# Altium schematic symbol library 4wheel sensor board.SchLib: 29 symbols
Pins are listed as number, name and electrical type; pins without a type are passive.

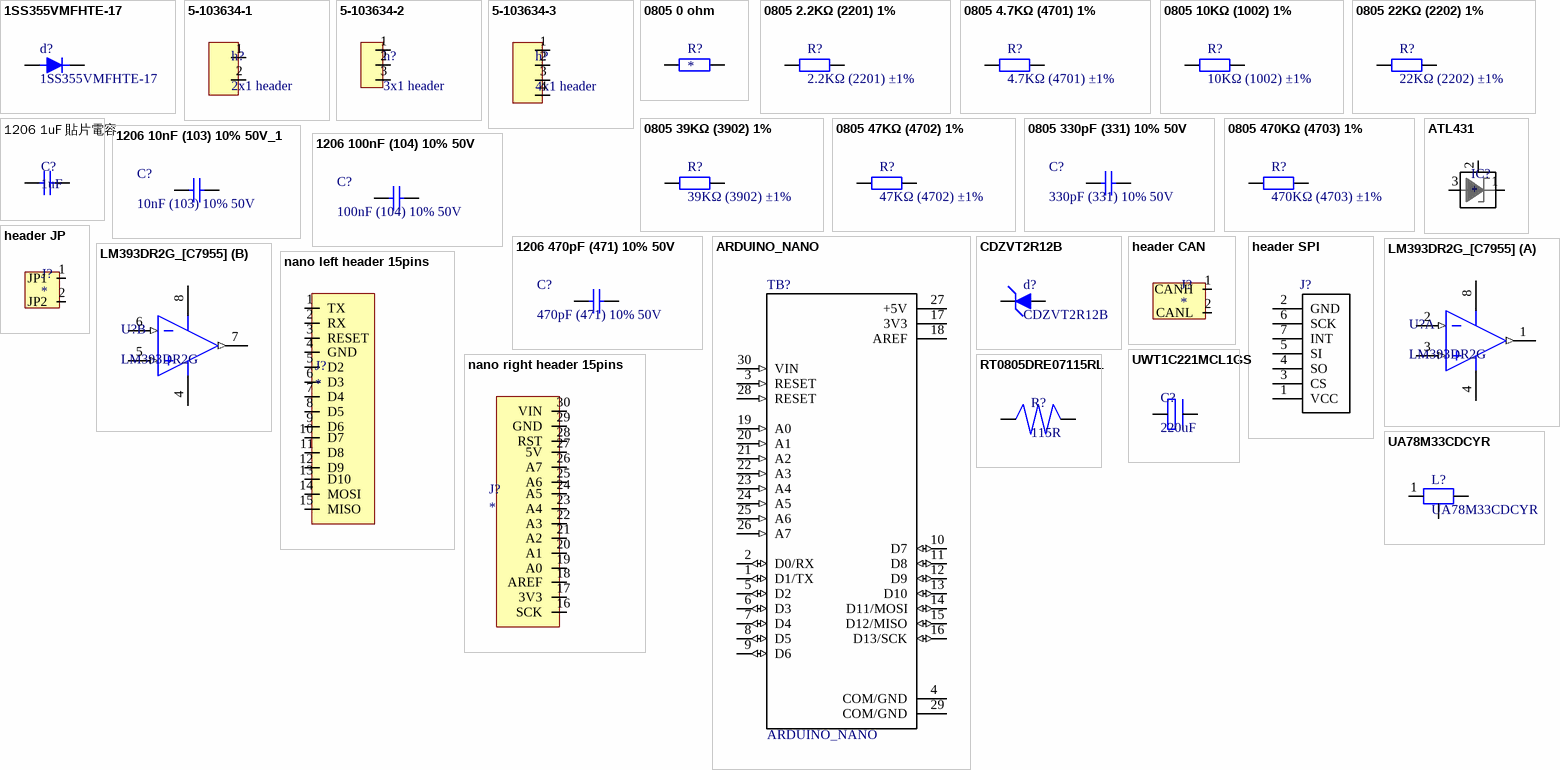
[diagram p0: symbols 1SS355VMFHTE-17 to UWT1C221MCL1GS]

## 1SS355VMFHTE-17
designator d?
ROHM         1SS355VMFHTE-17             Small Signal Diode, Single, 90 V, 100 mA, 1.2 V, 4 ns, 500 mA; Max Repetitive Reverse Voltage (Vrrm): 90V; Forward Current: 100mA; Forward Voltage: 1.2V; Reverse Recovery Time: 4ns; Max Forward Surge Current (Ifsm): 500mA; Supplier 1: Mouser; Supplier Part Number 1: 755-1SS355VMFHTE-17; Manufacturer: Rohm; Manufacturer Part Number: 1SS355VMFHTE-17; RoHS: No; Stock 1: 46949; Pricing 1: 1 = 0.31000, 10 = 0.21200, 100 = 0.08900, 1000 = 0.06000, 3000 = 0.04700, 9000 = 0.04700 (USD); Case/Package: SOD; Number of Pins: 2; Max Operating Temperature: 150°C; Packaging: Cut Tape; Element Configuration: Single; REACH SVHC: Unknown; ComponentLink1URL: http://www.farnell.com/datasheets/2296360.pdf?src-supplier=Farnell; ComponentLink1Description: http://www.farnell.com/datasheets/2296360.pdf?src-supplier=Farnell; ComponentLink2URL: http://www.farnell.com/datasheets/2021474.pdf?src-supplier=Farnell; ComponentLink2Description: http://www.farnell.com/datasheets/2021474.pdf?src-supplier=Farnell; ComponentLink3URL: https://www.rohm.com/datasheet/1SS355VMFH/1ss355vmfhte-17-e?src-supplier=Digi-Key; ComponentLink3Description: https://www.rohm.com/datasheet/1SS355VMFH/1ss355vmfhte-17-e?src-supplier=Digi-Key; ComponentLink4URL: http://www.farnell.com/datasheets/2296360.pdf?src-supplier=Newark; ComponentLink4Description: http://www.farnell.com/datasheets/2296360.pdf?src-supplier=Newark; ComponentLink5URL: http://www.farnell.com/datasheets/2021474.pdf?src-supplier=Element14; ComponentLink5Description: http://www.farnell.com/datasheets/2021474.pdf?src-supplier=Element14; catagory: diode
footprint 1SS355VMFHTE-17
pins: 1 71, 2 70

## 5-103634-1
designator h?, comment 2x1 header
Conn Shrouded Header (4 Sides) HDR 2 POS 2.54mm Solder RA Thru-Hole Box/Tube; Manufacturer: TE Connectivity; Manufacturer Part Number: 5-103634-1; Current Rating: 3A; Contact Resistance: 15mR; Number of Positions: 2; Insulation Resistance: 5GR; Voltage Rating: 600V; Connector Type: Plug; Gender: Male; Backwall/Post Interruptions: No (Without); Contact Retention: Yes (With); Plating Thickness: 2.54um; PCB Mount Retention: Without; PCB Mounting Orientation: Right Angle; Row Spacing: 0.1inch; Tail Length: 3.3mm; Approvals: CSA; Supplier 1: Mouser; Supplier Part Number 1: 571-5-103634-1; Stock 1: 4974; Pricing 1: 1 = 0.67000, 10 = 0.56600, 100 = 0.50100, 500 = 0.43900, 1000 = 0.40900, 2500 = 0.36700, 10000 = 0.34500, 25000 = 0.32800 (USD); Mount: Through Hole; Contact Plating: Tin; Contact Material: Brass; Color: Black; Housing Color: Black; Housing Material: Thermoplastic; Contact Shape: Square; Min Operating Temperature: -65°C; Max Operating Temperature: 105°C; Number of Rows: 1; Contact Gender: Male; Package Quantity: 70; Packaging: Rail/Tube; Termination: Crimp; Number of Contacts: 2; Orientation: Right Angle; Mating Alignment: Yes (With); Mating Retention: Yes (With); PCB Mount Alignment: No (Without); Strain Relief: No (Without); Contact Current Rating: 3A; Length: 7.62mm; Height: 0.274inch; Pitch: 2.54mm; Contact Mating Length: 0.23inch; Depth: 13.59mm; Radiation Hardening: No; REACH SVHC: No SVHC; Flammability Rating: UL94 V-0; ELV: Compliant; Lead Free: Lead Free; ComponentLink1URL: https://datasheet.ciiva.com/16318/5-103634-1-16318798.pdf?src-supplier=Future+Electronics; ComponentLink1Description: https://datasheet.ciiva.com/16318/5-103634-1-16318798.pdf?src-supplier=Future+Electronics; ComponentLink2URL: https://datasheet.ciiva.com/7703/1651634-7703466.pdf?src-supplier=Element14; ComponentLink2Description: https://datasheet.ciiva.com/7703/1651634-7703466.pdf?src-supplier=Element14; ComponentLink3URL: https://datasheet.ciiva.com/3118/eng-cs-1307819-section-5-cont-0808-3118262.pdf?src-supplier=Avnet; ComponentLink3Description: https://datasheet.ciiva.com/3118/eng-cs-1307819-section-5-cont-0808-3118262.pdf?src-supplier=Avnet; ComponentLink4URL: https://datasheet.ciiva.com/709/eng-cd-103634-u2-709833.pdf?src-supplier=Digi-Key; ComponentLink4Description: https://datasheet.ciiva.com/709/eng-cd-103634-u2-709833.pdf?src-supplier=Digi-Key; ComponentLink5URL: http://datasheet.octopart.com/5-103634-1-TE-Connectivity-datasheet-11077636.pdf?src-supplier=Newark; ComponentLink5Description: http://datasheet.octopart.com/5-103634-1-TE-Connectivity-datasheet-11077636.pdf?src-supplier=Newark; ComponentLink6URL: http://datasheet.octopart.com/5-103634-1-TE-Connectivity-datasheet-136861139.pdf?src-supplier=ShanghaiCT; ComponentLink6Description: http://datasheet.octopart.com/5-103634-1-TE-Connectivity-datasheet-136861139.pdf?src-supplier=ShanghaiCT; ComponentLink7URL: http://datasheet.octopart.com/5-103634-1-TE-Connectivity-datasheet-8324834.pdf?src-supplier=Master+Electronics; ComponentLink7Description: http://datasheet.octopart.com/5-103634-1-TE-Connectivity-datasheet-8324834.pdf?src-supplier=Master+Electronics; ComponentLink8URL: http://sigma.octopart.com/15108092/technical_drawing/TE-Connectivity-5-103634-1.pdf?src-supplier=TE+Connectivity; ComponentLink8Description: http://sigma.octopart.com/15108092/technical_drawing/TE-Connectivity-5-103634-1.pdf?src-supplier=TE+Connectivity; ComponentLink9URL: http://sigma.octopart.com/101751519/technical_drawing/TE-Connectivity-5-103634-1.pdf?src-supplier=Future+Electronics; ComponentLink9Description: http://sigma.octopart.com/101751519/technical_drawing/TE-Connectivity-5-103634-1.pdf?src-supplier=Future+Electronics; ComponentLink10URL: http://sigma.octopart.com/77852267/technical_drawing/TE-Connectivity-5-103634-1.pdf?src-supplier=TE+Connectivity; ComponentLink10Description: http://sigma.octopart.com/77852267/technical_drawing/TE-Connectivity-5-103634-1.pdf?src-supplier=TE+Connectivity; ComponentLink11URL: http://datasheet.octopart.com/5-103634-1-Agastat-datasheet-13560061.pdf?src-supplier=TE+Connectivity; ComponentLink11Description: http://datasheet.octopart.com/5-103634-1-Agastat-datasheet-13560061.pdf?src-supplier=TE+Connectivity; ComponentLink12URL: http://datasheet.octopart.com/5-103634-1-Tyco-Electronics-datasheet-508243.pdf?src-supplier=Verical; ComponentLink12Description: http://datasheet.octopart.com/5-103634-1-Tyco-Electronics-datasheet-508243.pdf?src-supplier=Verical; ComponentLink13URL: http://datasheet.octopart.com/5-103634-1-Tyco-Electronics-datasheet-8817613.pdf?src-supplier=Verical; ComponentLink13Description: http://datasheet.octopart.com/5-103634-1-Tyco-Electronics-datasheet-8817613.pdf?src-supplier=Verical; ComponentLink14URL: http://datasheet.octopart.com/5-103634-1-TE-Connectivity-datasheet-21140140.pdf?src-supplier=Farnell; ComponentLink14Description: http://datasheet.octopart.com/5-103634-1-TE-Connectivity-datasheet-21140140.pdf?src-supplier=Farnell; catagory: header
footprint *TE_5-103634-1
pins: 1, 2

## 5-103634-2
designator h?, comment 3x1 header
Conn Shrouded Header (4 Sides) HDR 3 POS 2.54mm Solder RA Thru-Hole Automotive Tube; Manufacturer: TE Connectivity; Manufacturer Part Number: 5-103634-2; Contact Resistance: 15mR; Current Rating: 3A; Connector Type: Plug; Number of Positions: 3; Insulation Resistance: 5GR; Voltage Rating: 600V; Gender: Male; Backwall/Post Interruptions: No (Without); Contact Retention: Yes (With); Plating Thickness: 2.54um; PCB Mount Retention: Without; PCB Mounting Orientation: Right Angle; Row Spacing: 0.1inch; Tail Length: 3.3mm; Approvals: CSA; Supplier 1: Mouser; Supplier Part Number 1: 571-5-103634-2; Stock 1: 2067; Pricing 1: 1 = 0.99000, 10 = 0.91200, 100 = 0.80200, 500 = 0.69700, 1000 = 0.62700, 2500 = 0.55500, 10000 = 0.52100, 25000 = 0.49600, 50000 = 0.48300 (USD); Mount: Through Hole; Contact Plating: Tin; Contact Material: Brass; Color: Black; Housing Color: Black; Housing Material: Thermoplastic; Contact Shape: Square; Min Operating Temperature: -65°C; Max Operating Temperature: 105°C; Number of Rows: 1; Packaging: Rail/Tube; Contact Gender: Male; Package Quantity: 52; Termination: Crimp; Number of Contacts: 3; Orientation: Right Angle; Mating Alignment: Yes (With); Mating Retention: Yes (With); PCB Mount Alignment: No (Without); Strain Relief: No (Without); Contact Current Rating: 3A; Length: 0.4inch; Height: 13.59mm; Pitch: 2.54mm; Contact Mating Length: 0.23inch; Depth: 13.59mm; Radiation Hardening: No; REACH SVHC: No SVHC; ELV: Compliant; Lead Free: Lead Free; Flammability Rating: UL94 V-0; ComponentLink1URL: https://datasheet.ciiva.com/16684/eng-ds-4-1773458-0-ampmodu-mte-interconnect-sys-0810-16684821.pdf?src-supplier=Avnet+Europe; ComponentLink1Description: https://datasheet.ciiva.com/16684/eng-ds-4-1773458-0-ampmodu-mte-interconnect-sys-0810-16684821.pdf?src-supplier=Avnet+Europe; ComponentLink2URL: https://datasheet.ciiva.com/7703/1651634-7703467.pdf?src-supplier=Element14; ComponentLink2Description: https://datasheet.ciiva.com/7703/1651634-7703467.pdf?src-supplier=Element14; ComponentLink3URL: https://datasheet.ciiva.com/709/eng-cd-103634-u2-709935.pdf?src-supplier=Digi-Key; ComponentLink3Description: https://datasheet.ciiva.com/709/eng-cd-103634-u2-709935.pdf?src-supplier=Digi-Key; ComponentLink4URL: https://datasheet.ciiva.com/30064/eng-cs-1307819-section-5-cont-0808-30064086.pdf?src-supplier=Onlinecomponents.com; ComponentLink4Description: https://datasheet.ciiva.com/30064/eng-cs-1307819-section-5-cont-0808-30064086.pdf?src-supplier=Onlinecomponents.com; ComponentLink5URL: https://datasheet.ciiva.com/3118/eng-ds-4-1773458-0-ampmodu-mte-interconnect-sys-0411-3118263.pdf?src-supplier=Avnet; ComponentLink5Description: https://datasheet.ciiva.com/3118/eng-ds-4-1773458-0-ampmodu-mte-interconnect-sys-0411-3118263.pdf?src-supplier=Avnet; ComponentLink6URL: http://datasheet.octopart.com/5-103634-2-TE-Connectivity-datasheet-11077636.pdf?src-supplier=Newark; ComponentLink6Description: http://datasheet.octopart.com/5-103634-2-TE-Connectivity-datasheet-11077636.pdf?src-supplier=Newark; ComponentLink7URL: http://datasheet.octopart.com/5-103634-2-TE-Connectivity-datasheet-136861139.pdf?src-supplier=ShanghaiCT; ComponentLink7Description: http://datasheet.octopart.com/5-103634-2-TE-Connectivity-datasheet-136861139.pdf?src-supplier=ShanghaiCT; ComponentLink8URL: http://sigma.octopart.com/15108092/technical_drawing/TE-Connectivity-5-103634-2.pdf?src-supplier=TE+Connectivity; ComponentLink8Description: http://sigma.octopart.com/15108092/technical_drawing/TE-Connectivity-5-103634-2.pdf?src-supplier=TE+Connectivity; ComponentLink9URL: http://datasheet.octopart.com/5-103634-2-TE-Connectivity-datasheet-8324834.pdf?src-supplier=Electro+Sonic; ComponentLink9Description: http://datasheet.octopart.com/5-103634-2-TE-Connectivity-datasheet-8324834.pdf?src-supplier=Electro+Sonic; ComponentLink10URL: http://sigma.octopart.com/101751519/technical_drawing/TE-Connectivity-5-103634-2.pdf?src-supplier=ShanghaiCT; ComponentLink10Description: http://sigma.octopart.com/101751519/technical_drawing/TE-Connectivity-5-103634-2.pdf?src-supplier=ShanghaiCT; ComponentLink11URL: http://sigma.octopart.com/77852267/technical_drawing/TE-Connectivity-5-103634-2.pdf?src-supplier=TE+Connectivity; ComponentLink11Description: http://sigma.octopart.com/77852267/technical_drawing/TE-Connectivity-5-103634-2.pdf?src-supplier=TE+Connectivity; ComponentLink12URL: http://datasheet.octopart.com/5-103634-2-TE-Connectivity---AMP-datasheet-13560061.pdf?src-supplier=TE+Connectivity; ComponentLink12Description: http://datasheet.octopart.com/5-103634-2-TE-Connectivity---AMP-datasheet-13560061.pdf?src-supplier=TE+Connectivity; ComponentLink13URL: http://datasheet.octopart.com/5-103634-2-TE-Connectivity---AMP-datasheet-27832656.pdf?src-supplier=Farnell; ComponentLink13Description: http://datasheet.octopart.com/5-103634-2-TE-Connectivity---AMP-datasheet-27832656.pdf?src-supplier=Farnell; catagory: header
footprint *TE_5-103634-2
pins: 1 107, 2 108, 3 109

## 5-103634-3
designator h?, comment 4x1 header
Conn Shrouded Header (4 Sides) HDR 4 POS 2.54mm Solder RA Thru-Hole Box/Tube; Manufacturer: TE Connectivity; Manufacturer Part Number: 5-103634-3; Contact Resistance: 15mR; Current Rating: 3A; Voltage Rating: 250V; Number of Positions: 4; Insulation Resistance: 5GR; Connector Type: Plug; Backwall/Post Interruptions: No (Without); Contact Retention: Yes (With); Plating Thickness: 2.54um; PCB Mount Retention: Without; PCB Mounting Orientation: Right Angle; Row Spacing: 0.1inch; Tail Length: 3.3mm; Approvals: CSA; Supplier 1: Mouser; Supplier Part Number 1: 571-5-103634-3; Stock 1: 289; Pricing 1: 1 = 1.23000, 10 = 1.02000, 100 = 0.91700, 500 = 0.79700, 1000 = 0.72100, 2500 = 0.58900, 25000 = 0.58000, 50000 = 0.56600 (USD); Mount: Through Hole; Color: Black; Contact Plating: Tin; Contact Material: Brass; Housing Color: Black; Housing Material: Thermoplastic; Contact Shape: Square; Min Operating Temperature: -65°C; Max Operating Temperature: 105°C; Package Quantity: 42; Number of Rows: 1; Packaging: Rail/Tube; Contact Gender: Male; Termination: Crimp; Number of Contacts: 4; Orientation: Right Angle; Mating Alignment: Yes (With); Mating Retention: Yes (With); PCB Mount Alignment: No (Without); Strain Relief: No (Without); Contact Current Rating: 3A; Length: 12.7mm; Height: 13.59mm; Pitch: 2.54mm; Contact Mating Length: 0.23inch; Depth: 13.59mm; REACH SVHC: No SVHC; Flammability Rating: UL94 V-0; ComponentLink1URL: https://datasheet.ciiva.com/709/eng-cd-103634-u2-709984.pdf?src-supplier=Digi-Key; ComponentLink1Description: https://datasheet.ciiva.com/709/eng-cd-103634-u2-709984.pdf?src-supplier=Digi-Key; ComponentLink2URL: https://datasheet.ciiva.com/30493/0900766b80f9a687-30493821.pdf?src-supplier=RSComponents; ComponentLink2Description: https://datasheet.ciiva.com/30493/0900766b80f9a687-30493821.pdf?src-supplier=RSComponents; ComponentLink3URL: https://datasheet.ciiva.com/16497/eng-cs-1307819-section-5-cont-0808-16497095.pdf?src-supplier=Avnet+Asia; ComponentLink3Description: https://datasheet.ciiva.com/16497/eng-cs-1307819-section-5-cont-0808-16497095.pdf?src-supplier=Avnet+Asia; ComponentLink4URL: https://datasheet.ciiva.com/7800/1651634-7800366.pdf?src-supplier=Element14; ComponentLink4Description: https://datasheet.ciiva.com/7800/1651634-7800366.pdf?src-supplier=Element14; ComponentLink5URL: https://datasheet.ciiva.com/14644/70087799-14644933.pdf?src-supplier=Allied+Electronics; ComponentLink5Description: https://datasheet.ciiva.com/14644/70087799-14644933.pdf?src-supplier=Allied+Electronics; ComponentLink6URL: https://datasheet.ciiva.com/9484/eng-cs-1307819-section-5-cont-0808-9484872.pdf?src-supplier=Avnet; ComponentLink6Description: https://datasheet.ciiva.com/9484/eng-cs-1307819-section-5-cont-0808-9484872.pdf?src-supplier=Avnet; ComponentLink7URL: https://datasheet.ciiva.com/46442/1651634-46442506.pdf?src-supplier=Element14; ComponentLink7Description: https://datasheet.ciiva.com/46442/1651634-46442506.pdf?src-supplier=Element14; ComponentLink8URL: https://datasheet.ciiva.com/16355/eng-ds-4-1773458-0-ampmodu-mte-interconnect-sys-0411-16355979.pdf?src-supplier=Future+Electronics; ComponentLink8Description: https://datasheet.ciiva.com/16355/eng-ds-4-1773458-0-ampmodu-mte-interconnect-sys-0411-16355979.pdf?src-supplier=Future+Electronics; ComponentLink9URL: http://datasheet.octopart.com/5-103634-3-TE-Connectivity-datasheet-11077636.pdf?src-supplier=Newark; ComponentLink9Description: http://datasheet.octopart.com/5-103634-3-TE-Connectivity-datasheet-11077636.pdf?src-supplier=Newark; ComponentLink10URL: http://datasheet.octopart.com/5-103634-3-TE-Connectivity-datasheet-136861139.pdf?src-supplier=ShanghaiCT; ComponentLink10Description: http://datasheet.octopart.com/5-103634-3-TE-Connectivity-datasheet-136861139.pdf?src-supplier=ShanghaiCT; ComponentLink11URL: http://sigma.octopart.com/15108092/technical_drawing/TE-Connectivity-5-103634-3.pdf?src-supplier=Farnell; ComponentLink11Description: http://sigma.octopart.com/15108092/technical_drawing/TE-Connectivity-5-103634-3.pdf?src-supplier=Farnell; ComponentLink12URL: http://datasheet.octopart.com/5-103634-3-TE-Connectivity-datasheet-8324834.pdf?src-supplier=Master+Electronics; ComponentLink12Description: http://datasheet.octopart.com/5-103634-3-TE-Connectivity-datasheet-8324834.pdf?src-supplier=Master+Electronics; ComponentLink13URL: http://sigma.octopart.com/101751519/technical_drawing/TE-Connectivity-5-103634-3.pdf?src-supplier=Future+Electronics; ComponentLink13Description: http://sigma.octopart.com/101751519/technical_drawing/TE-Connectivity-5-103634-3.pdf?src-supplier=Future+Electronics; ComponentLink14URL: http://sigma.octopart.com/77852267/technical_drawing/TE-Connectivity-5-103634-3.pdf?src-supplier=TE+Connectivity; ComponentLink14Description: http://sigma.octopart.com/77852267/technical_drawing/TE-Connectivity-5-103634-3.pdf?src-supplier=TE+Connectivity; ComponentLink15URL: http://datasheet.octopart.com/5-103634-3-Agastat-datasheet-13560061.pdf?src-supplier=TE+Connectivity; ComponentLink15Description: http://datasheet.octopart.com/5-103634-3-Agastat-datasheet-13560061.pdf?src-supplier=TE+Connectivity; ComponentLink16URL: http://datasheet.octopart.com/5-103634-3-TE-Connectivity-datasheet-9653333.pdf?src-supplier=Allied+Electronics; ComponentLink16Description: http://datasheet.octopart.com/5-103634-3-TE-Connectivity-datasheet-9653333.pdf?src-supplier=Allied+Electronics; ComponentLink17URL: http://datasheet.octopart.com/5-103634-3-Tyco-Electronics-datasheet-508243.pdf?src-supplier=Future+Electronics; ComponentLink17Description: http://datasheet.octopart.com/5-103634-3-Tyco-Electronics-datasheet-508243.pdf?src-supplier=Future+Electronics; ComponentLink18URL: http://datasheet.octopart.com/5-103634-3-Tyco-Electronics-datasheet-8817613.pdf?src-supplier=Future+Electronics; ComponentLink18Description: http://datasheet.octopart.com/5-103634-3-Tyco-Electronics-datasheet-8817613.pdf?src-supplier=Future+Electronics; catagory: header
footprint *TE_5-103634-3
pins: 1 79, 2 80, 3 81, 4 82

## 0805 0 ohm
designator R?
footprint 0805_R
pins: 1, 2

## 0805 2.2KΩ (2201) 1%
designator R?, comment 2.2KΩ (2201) ±1%
贴片电阻; ComponentLink1Description: 供应商链接; ComponentLink1URL: http://www.szlcsc.com/product/details_18208.html; Package: 0805; Supplier: LC; SuppliersPartNumber: C17520
footprint 0805_R
pins: 1, 2

## 0805 4.7KΩ (4701) 1%
designator R?, comment 4.7KΩ (4701) ±1%
贴片电阻; ComponentLink1Description: 供应商链接; ComponentLink1URL: http://www.szlcsc.com/product/details_18361.html; Package: 0805; Supplier: LC; SuppliersPartNumber: C17673
footprint 0805_R
pins: 1, 2

## 0805 10KΩ (1002) 1%
designator R?, comment 10KΩ (1002) ±1%
贴片电阻; ComponentLink1Description: 供应商链接; ComponentLink1URL: http://www.szlcsc.com/product/details_18102.html; Package: 0805; Supplier: LC; SuppliersPartNumber: C17414
footprint 0805_R
pins: 1, 2

## 0805 22KΩ (2202) 1%
designator R?, comment 22KΩ (2202) ±1%
贴片电阻; ComponentLink1Description: 供应商链接; ComponentLink1URL: http://www.szlcsc.com/product/details_18248.html; Package: 0805; Supplier: LC; SuppliersPartNumber: C17560
footprint 0805_R
pins: 1, 2

## 0805 39KΩ (3902) 1%
designator R?, comment 39KΩ (3902) ±1%
贴片电阻; ComponentLink1Description: 供应商链接; ComponentLink1URL: http://www.szlcsc.com/product/details_26569.html; Package: 0805; Supplier: LC; SuppliersPartNumber: C25826
footprint 0805_R
pins: 1, 2

## 0805 47KΩ (4702) 1%
designator R?, comment 47KΩ (4702) ±1%
贴片电阻; ComponentLink1Description: 供应商链接; ComponentLink1URL: http://www.szlcsc.com/product/details_18401.html; Package: 0805; Supplier: LC; SuppliersPartNumber: C17713
footprint 0805_R
pins: 1, 2

## 0805 330pF (331) 10% 50V
designator C?, comment 330pF (331) 10% 50V
贴片电容; ComponentLink1Description: 供应商链接; ComponentLink1URL: http://www.szlcsc.com/product/details_52220.html; Package: 0805; Supplier: LC; SuppliersPartNumber: C51207
footprint 0805_C
pins: 1, 2

## 0805 470KΩ (4703) 1%
designator R?, comment 470KΩ (4703) ±1%
贴片电阻; ComponentLink1Description: 供应商链接; ComponentLink1URL: http://www.szlcsc.com/product/details_18397.html; Package: 0805; Supplier: LC; SuppliersPartNumber: C17709
footprint 0805_R
pins: 1, 2

## 1206 1uF 貼片電容
designator C?, comment 1uF
footprint 1206_C
pins: 1, 2

## 1206 10nF (103) 10% 50V_1
designator C?, comment 10nF (103) 10% 50V
贴片电容; ComponentLink1Description: 供应商链接; ComponentLink1URL: http://www.szlcsc.com/product/details_25237.html; Package: 1206; Supplier: LC; SuppliersPartNumber: C24497
footprint 1206_C
pins: 1, 2

## 1206 100nF (104) 10% 50V
designator C?, comment 100nF (104) 10% 50V
贴片电容; ComponentLink1Description: 供应商链接; ComponentLink1URL: http://www.szlcsc.com/product/details_25237.html; Package: 1206; Supplier: LC; SuppliersPartNumber: C24497
footprint 1206_C
pins: 1, 2

## 1206 470pF (471) 10% 50V
designator C?, comment 470pF (471) 10% 50V
贴片电容; ComponentLink1Description: 供应商链接; ComponentLink1URL: http://www.szlcsc.com/product/details_2220.html; Package: 1206; Supplier: LC; SuppliersPartNumber: C1868
footprint 1206_C
pins: 1, 2

## ARDUINO_NANO
designator TB?
/ ATmega4809 Arduino Nano Every with Headers AVR簧 AVR MCU 8-Bit Embedded Evaluation Board /; SnapEDA_Link: https://www.snapeda.com/parts/ARDUINO%20NANO/Arduino/view-part/1128261/?ref=snap; Availability: Unavailable; MF: Arduino; Price: None; Package: None; MP: ARDUINO NANO; Value: *
footprint *SHIELD_ARDUINO_NANO
pins: 1 D1/TX (io), 2 D0/RX (io), 3 RESET (in), 4 COM/GND (power), 5 D2 (io), 6 D3 (io), 7 D4 (io), 8 D5 (io), 9 D6 (io), 10 D7 (io), 11 D8 (io), 12 D9 (io), 13 D10 (io), 14 D11/MOSI (io), 15 D12/MISO (io), 16 D13/SCK (io), 17 3V3 (power), 18 AREF (power), 19 A0 (in), 20 A1 (in), 21 A2 (in), 22 A3 (in), 23 A4 (in), 24 A5 (in), 25 A6 (in), 26 A7 (in), 27 +5V (power), 28 RESET (in), 29 COM/GND (power), 30 VIN (in)

## ATL431
designator IC?
footprint ATL431
pins: 1, 2, 3

## CDZVT2R12B
designator d?
In a Pack of 250, ROHM, 11.74V Zener Diode 100 mW SMT 2-Pin SOD-923, VMN2M; Zener Voltage: 12V; Max Power Dissipation: 100mW; Impedance: 30R; Supplier 1: Mouser; Supplier Part Number 1: 755-CDZVT2R12B; Manufacturer: Rohm; Manufacturer Part Number: CDZVT2R12B; Stock 1: 9238; Pricing 1: 1 = 0.23000, 10 = 0.15300, 100 = 0.06400, 1000 = 0.04400, 2500 = 0.03400, 8000 = 0.02900 (USD); Mount: Surface Mount; Case/Package: SMD/SMT; Packaging: Tape and Reel; ComponentLink1URL: http://rohmfs.rohm.com/en/products/databook/datasheet/discrete/diode/zener/cdzvt2r12b-e.pdf?src-supplier=Digi-Key; ComponentLink1Description: http://rohmfs.rohm.com/en/products/databook/datasheet/discrete/diode/zener/cdzvt2r12b-e.pdf?src-supplier=Digi-Key
footprint CDZVT2R13B
pins: 1 60, 2 61

## header CAN
designator J?
footprint header CAN
pins: 1 CANH, 2 CANL

## header JP
designator J?
footprint HEADER JP
pins: 1 JP1, 2 JP2

## header SPI
designator J?  (value not drawn)
MF: TE Connectivity; MP: 827312-7; SnapEDA_Link: https://www.snapeda.com/parts/827312-7/TE%20Connectivity/view-part/3097410/?ref=snap; Price: None; Availability: Unavailable; TE_purchase_URL: https://www.te.com/usa-en/product-827312-7.html?te_bu=Cor&te_type=disp&te_campaign=seda_glo_cor-seda-global-disp-prtnr-fy19-seda-model-bom-cta_sma-317_1&elqCampaignId=32493; Package: None; Value: *
footprint header SPI
pins: 1 VCC, 2 GND, 3 CS, 4 SO, 5 SI, 6 SCK, 7 INT

## LM393DR2G_[C7955]
designator U?, comment LM393DR2G
电压比较器; ComponentLink1Description: 供应商链接; ComponentLink1URL: http://www.szlcsc.com/product/details_8432.html; Package: SOIC-8; Supplier: LC; SuppliersPartNumber: C7955
footprint SOIC-8_150mil
pins on every part: 4 GND (power), 8 V+ (power)
part A pins: 1 OUT (out), 2 IN- (in), 3 IN+ (in)
part B pins: 5 IN+ (in), 6 IN- (in), 7 OUT (out)

## nano left header 15pins
designator J?
footprint nano left header 15pins
pins: 1 TX, 2 RX, 3 RESET, 4 GND, 5 D2, 6 D3, 7 D4, 8 D5, 9 D6, 10 D7, 11 D8, 12 D9, 13 D10, 14 MOSI, 15 MISO

## nano right header 15pins
designator J?
footprint nano right header 15pins
pins: 16 SCK, 17 3V3, 18 AREF, 19 A0, 20 A1, 21 A2, 22 A3, 23 A4, 24 A5, 25 A6, 26 A7, 27 5V, 28 RST, 29 GND, 30 VIN

## RT0805DRE07115RL
designator R?, comment 115R
High Precision-High Stability Chip Resistor Thin Film 0805 115Ohm 0.5% Paper T/R; Manufacturer: Yageo; Manufacturer Part Number: RT0805DRE07115RL; Max Power Dissipation: 125mW; Temperature Coefficient: 50ppm/°C; Voltage Rating (DC): 150V; catagory: resister; Supplier 1: Mouser; Supplier Part Number 1: 603-RT0805DRE07115RL; Stock 1: 9900; Pricing 1: 1 = 0.17000, 10 = 0.08800, 100 = 0.03100, 1000 = 0.02200, 5000 = 0.01500, 10000 = 0.01400 (USD); Case/Package: 0805; Case Code (Metric): 2012; Case Code (Imperial): 0805; Min Operating Temperature: -55°C; Max Operating Temperature: 155°C; Package Quantity: 5000; Packaging: Tape and Reel; Resistance: 115R; Tolerance: 0.5%; Composition: Thin Film; Number of Terminations: 2; Features: Moisture Resistant; Length: 0.079inch; Height: 0.024inch; Width: 0.049inch; Lead Free: Lead Free; ComponentLink1URL: https://datasheet.ciiva.com/2569/pyu-rt-1-to-0-05-rohs-l-5-2569178.pdf?src-supplier=Digi-Key; ComponentLink1Description: https://datasheet.ciiva.com/2569/pyu-rt-1-to-0-05-rohs-l-5-2569178.pdf?src-supplier=Digi-Key; ComponentLink2URL: http://datasheet.octopart.com/RT0805DRE07115RL-Yageo-datasheet-86813807.pdf; ComponentLink2Description: http://datasheet.octopart.com/RT0805DRE07115RL-Yageo-datasheet-86813807.pdf
footprint Yageo 0805
pins: 1 22, 2 24

## UA78M33CDCYR
designator L?
500-mA, 25-V linear voltage regulator 4-SOT-223 0 to 125; Manufacturer: Texas Instruments; Dropout Voltage: 2V; Number of Outputs: 1; Output Current: 500mA; Min Input Voltage: 5.3V; Output Voltage: 3.3V; Max Input Voltage: 25V; Polarity: Positive; Power Supply Rejection Ratio (PSRR): 80dB; Quiescent Current: 4.5mA; Output Type: Fixed; catagory: LDO; Supplier 1: Mouser; Supplier Part Number 1: 595-UA78M33CDCYR; Manufacturer Part Number: UA78M33CDCYR; Stock 1: 20876; Pricing 1: 1 = 0.57000, 10 = 0.46900, 100 = 0.28500, 1000 = 0.22000, 2500 = 0.17500, 10000 = 0.16600 (USD); Mount: Surface Mount; Case/Package: SOT-223-4; Number of Pins: 4; Weight: 0.006632oz; Contact Plating: Tin; Min Operating Temperature: -40°C; Max Operating Temperature: 125°C; Packaging: Tape and Reel; Package Quantity: 1; Max Output Current: 500mA; Number of Regulators: 1; Nominal Output Voltage: 3.3V; Radiation Hardening: No; Lead Free: Lead Free; REACH SVHC: No SVHC; ComponentLink1URL: https://datasheet.ciiva.com/2042/ua78m05-2042173.pdf?src-supplier=Digi-Key; ComponentLink1Description: https://datasheet.ciiva.com/2042/ua78m05-2042173.pdf?src-supplier=Digi-Key; ComponentLink2URL: https://datasheet.ciiva.com/46395/1882046-46395062.pdf?src-supplier=Element14; ComponentLink2Description: https://datasheet.ciiva.com/46395/1882046-46395062.pdf?src-supplier=Element14; ComponentLink3URL: https://datasheet.ciiva.com/7992/1882046-7992586.pdf?src-supplier=Element14; ComponentLink3Description: https://datasheet.ciiva.com/7992/1882046-7992586.pdf?src-supplier=Element14; ComponentLink4URL: https://datasheet.ciiva.com/2042/ua78m05-2042171.pdf?src-supplier=Digi-Key; ComponentLink4Description: https://datasheet.ciiva.com/2042/ua78m05-2042171.pdf?src-supplier=Digi-Key; ComponentLink5URL: https://datasheet.ciiva.com/3224/ua78m05-3224619.pdf?src-supplier=Avnet; ComponentLink5Description: https://datasheet.ciiva.com/3224/ua78m05-3224619.pdf?src-supplier=Avnet; ComponentLink6URL: https://datasheet.ciiva.com/2042/ua78m05-2042172.pdf?src-supplier=Digi-Key; ComponentLink6Description: https://datasheet.ciiva.com/2042/ua78m05-2042172.pdf?src-supplier=Digi-Key; ComponentLink7URL: https://datasheet.ciiva.com/26170/ua78m12-26170716.pdf?src-supplier=Avnet+Europe; ComponentLink7Description: https://datasheet.ciiva.com/26170/ua78m12-26170716.pdf?src-supplier=Avnet+Europe; ComponentLink8URL: https://datasheet.ciiva.com/41463/001015184-da-01-en-ic-reg-3-3v-u-ua78m33cdcyr-sot-223-4-tid-41463029.pdf?src-supplier=Conrad; ComponentLink8Description: https://datasheet.ciiva.com/41463/001015184-da-01-en-ic-reg-3-3v-u-ua78m33cdcyr-sot-223-4-tid-41463029.pdf?src-supplier=Conrad; ComponentLink9URL: https://octopart.com/click/track?ai=8629&ct=datasheets&sig=089d2e9&at=physicalpart&sid=370&ppid=525280&hlid=25214059&src-supplier=TI+store; ComponentLink9Description: https://octopart.com/click/track?ai=8629&ct=datasheets&sig=089d2e9&at=physicalpart&sid=370&ppid=525280&hlid=25214059&src-supplier=TI+store; ComponentLink10URL: http://datasheet.octopart.com/UA78M33CDCYR-Texas-Instruments-datasheet-36835627.pdf?src-supplier=Farnell; ComponentLink10Description: http://datasheet.octopart.com/UA78M33CDCYR-Texas-Instruments-datasheet-36835627.pdf?src-supplier=Farnell; ComponentLink11URL: http://datasheet.octopart.com/UA78M33CDCYR-Texas-Instruments-datasheet-149391.pdf?src-supplier=TI+store; ComponentLink11Description: http://datasheet.octopart.com/UA78M33CDCYR-Texas-Instruments-datasheet-149391.pdf?src-supplier=TI+store; ComponentLink12URL: http://datasheet.octopart.com/UA78M33CDCYR-Texas-Instruments-datasheet-10055021.pdf?src-supplier=TI+store; ComponentLink12Description: http://datasheet.octopart.com/UA78M33CDCYR-Texas-Instruments-datasheet-10055021.pdf?src-supplier=TI+store; ComponentLink13URL: http://datasheet.octopart.com/UA78M33CDCYR-Texas-Instruments-datasheet-13688167.pdf?src-supplier=TI+store; ComponentLink13Description: http://datasheet.octopart.com/UA78M33CDCYR-Texas-Instruments-datasheet-13688167.pdf?src-supplier=TI+store; ComponentLink14URL: http://datasheet.octopart.com/UA78M33CDCYR-Texas-Instruments-datasheet-15762063.pdf?src-supplier=TI+store; ComponentLink14Description: http://datasheet.octopart.com/UA78M33CDCYR-Texas-Instruments-datasheet-15762063.pdf?src-supplier=TI+store; ComponentLink15URL: http://sigma.octopart.com/49253063/technical_drawing/Texas-Instruments-UA78M33CDCYR.pdf?src-supplier=TI+store; ComponentLink15Description: http://sigma.octopart.com/49253063/technical_drawing/Texas-Instruments-UA78M33CDCYR.pdf?src-supplier=TI+store; ComponentLink16URL: http://datasheet.octopart.com/UA78M33CDCYR-Texas-Instruments-datasheet-11045484.pdf?src-supplier=Farnell; ComponentLink16Description: http://datasheet.octopart.com/UA78M33CDCYR-Texas-Instruments-datasheet-11045484.pdf?src-supplier=Farnell; ComponentLink17URL: http://datasheet.octopart.com/UA78M33CDCYR-Texas-Instruments-datasheet-17023345.pdf?src-supplier=Farnell; ComponentLink17Description: http://datasheet.octopart.com/UA78M33CDCYR-Texas-Instruments-datasheet-17023345.pdf?src-supplier=Farnell; ComponentLink18URL: http://datasheet.octopart.com/UA78M33CDCYR-Texas-Instruments-datasheet-66618012.pdf?src-supplier=Element14; ComponentLink18Description: http://datasheet.octopart.com/UA78M33CDCYR-Texas-Instruments-datasheet-66618012.pdf?src-supplier=Element14; ComponentLink19URL: http://datasheet.octopart.com/UA78M33CDCYR-Texas-Instruments-datasheet-103689172.pdf?src-supplier=Newark; ComponentLink19Description: http://datasheet.octopart.com/UA78M33CDCYR-Texas-Instruments-datasheet-103689172.pdf?src-supplier=Newark; ComponentLink20URL: http://datasheet.octopart.com/UA78M33CDCYR-Texas-Instruments-datasheet-27844395.pdf?src-supplier=Farnell; ComponentLink20Description: http://datasheet.octopart.com/UA78M33CDCYR-Texas-Instruments-datasheet-27844395.pdf?src-supplier=Farnell; ComponentLink21URL: http://datasheet.octopart.com/UA78M33CDCYR-Texas-Instruments-datasheet-32751138.pdf?src-supplier=Element14; ComponentLink21Description: http://datasheet.octopart.com/UA78M33CDCYR-Texas-Instruments-datasheet-32751138.pdf?src-supplier=Element14; ComponentLink22URL: http://datasheet.octopart.com/UA78M33CDCYR.-Texas-Instruments-datasheet-58296054.pdf?src-supplier=Element14; ComponentLink22Description: http://datasheet.octopart.com/UA78M33CDCYR.-Texas-Instruments-datasheet-58296054.pdf?src-supplier=Element14; ComponentLink23URL: http://datasheet.octopart.com/UA78M33CDCYR-Texas-Instruments-datasheet-7887.pdf?src-supplier=Digi-Key; ComponentLink23Description: http://datasheet.octopart.com/UA78M33CDCYR-Texas-Instruments-datasheet-7887.pdf?src-supplier=Digi-Key; ComponentLink24URL: http://datasheet.octopart.com/UA78M33CDCYR-Texas-Instruments-datasheet-113895.pdf?src-supplier=Sierra+IC; ComponentLink24Description: http://datasheet.octopart.com/UA78M33CDCYR-Texas-Instruments-datasheet-113895.pdf?src-supplier=Sierra+IC; ComponentLink25URL: http://datasheet.octopart.com/UA78M33CDCYR-Texas-Instruments-datasheet-7827273.pdf?src-supplier=Jameco; ComponentLink25Description: http://datasheet.octopart.com/UA78M33CDCYR-Texas-Instruments-datasheet-7827273.pdf?src-supplier=Jameco; ComponentLink26URL: http://datasheet.octopart.com/UA78M33CDCYR-Texas-Instruments-datasheet-14168817.pdf?src-supplier=IIIC; ComponentLink26Description: http://datasheet.octopart.com/UA78M33CDCYR-Texas-Instruments-datasheet-14168817.pdf?src-supplier=IIIC
footprint UA78M33CDCYR (SOT223, 4-Leads, Body 6.50x7.00mm (avg), Pitch 2.30mm, IPC Medium Density)
pins: 1 56, 2 57, 3 55

## UWT1C221MCL1GS
designator C?, comment 220uF
In a Pack of 25, Nichicon 220μF Electrolytic Capacitor 16V dc Surface Mount - UWT1C221MCL1GS; Dielectric Material: Aluminium; Tolerance: 20%; Ripple Current: 105mA; Leakage Current: 3uA; Life (Hours): 1000Hour; Dissipation Factor: 0.2%; catagory: capacity; Supplier 1: Mouser; Supplier Part Number 1: 647-UWT1C221MCL1S; Manufacturer: Nichicon; Manufacturer Part Number: UWT1C221MCL1GS; Stock 1: 2437; Pricing 1: 1 = 0.32000, 10 = 0.27900, 25 = 0.22600, 100 = 0.16700, 250 = 0.14700, 500 = 0.12600 (USD); Mount: Surface Mount; Case/Package: SMD/SMT; Number of Pins: 2; Min Operating Temperature: -55°C; Max Operating Temperature: 105°C; Capacitance: 220uF; Package Quantity: 900; Voltage Rating: 16V; Voltage Rating (DC): 16V; Packaging: Tape and Reel; Ripple Current (AC): 105mA; Termination: SMD/SMT; Voltage: 16V; Features: General Purpose; Diameter: 6.3mm; Length: 7.7mm; Height: 7.7mm; Height - Seated (Max): 0.248inch; Lead Pitch: 2.2mm; Radiation Hardening: No; REACH SVHC: No SVHC; Lead Free: Lead Free; ComponentLink1URL: https://datasheet.ciiva.com/96/e-wt-96677.pdf?src-supplier=Digi-Key; ComponentLink1Description: https://datasheet.ciiva.com/96/e-wt-96677.pdf?src-supplier=Digi-Key; ComponentLink2URL: https://datasheet.ciiva.com/7781/e-wt-7781800.pdf?src-supplier=Element14; ComponentLink2Description: https://datasheet.ciiva.com/7781/e-wt-7781800.pdf?src-supplier=Element14; ComponentLink3URL: https://datasheet.ciiva.com/11687/e-wt-11687178.pdf?src-supplier=Avnet; ComponentLink3Description: https://datasheet.ciiva.com/11687/e-wt-11687178.pdf?src-supplier=Avnet; ComponentLink4URL: https://datasheet.ciiva.com/46382/1910938-46382794.pdf?src-supplier=Element14; ComponentLink4Description: https://datasheet.ciiva.com/46382/1910938-46382794.pdf?src-supplier=Element14; ComponentLink5URL: https://datasheet.ciiva.com/16356/e-wt-16356373.pdf?src-supplier=Future+Electronics; ComponentLink5Description: https://datasheet.ciiva.com/16356/e-wt-16356373.pdf?src-supplier=Future+Electronics; ComponentLink6URL: https://datasheet.ciiva.com/96/e-wt-96678.pdf?src-supplier=Digi-Key; ComponentLink6Description: https://datasheet.ciiva.com/96/e-wt-96678.pdf?src-supplier=Digi-Key; ComponentLink7URL: https://datasheet.ciiva.com/15199/getdatasheetpartid-427107-15199270.pdf?src-supplier=Verical; ComponentLink7Description: https://datasheet.ciiva.com/15199/getdatasheetpartid-427107-15199270.pdf?src-supplier=Verical; ComponentLink8URL: https://datasheet.ciiva.com/96/e-wt-96679.pdf?src-supplier=Digi-Key; ComponentLink8Description: https://datasheet.ciiva.com/96/e-wt-96679.pdf?src-supplier=Digi-Key; ComponentLink9URL: https://datasheet.ciiva.com/17527/e-wt-17527672.pdf?src-supplier=Avnet+Europe; ComponentLink9Description: https://datasheet.ciiva.com/17527/e-wt-17527672.pdf?src-supplier=Avnet+Europe; ComponentLink10URL: http://datasheet.octopart.com/UWT1C221MCL1GS-Nichicon-datasheet-12520520.pdf?src-supplier=Farnell; ComponentLink10Description: http://datasheet.octopart.com/UWT1C221MCL1GS-Nichicon-datasheet-12520520.pdf?src-supplier=Farnell; ComponentLink11URL: http://datasheet.octopart.com/UWT1C221MCL1GS-Nichicon-datasheet-41194142.pdf?src-supplier=Newark; ComponentLink11Description: http://datasheet.octopart.com/UWT1C221MCL1GS-Nichicon-datasheet-41194142.pdf?src-supplier=Newark; ComponentLink12URL: http://datasheet.octopart.com/UWT1C221MCL1GS-Nichicon-datasheet-62069773.pdf?src-supplier=Farnell; ComponentLink12Description: http://datasheet.octopart.com/UWT1C221MCL1GS-Nichicon-datasheet-62069773.pdf?src-supplier=Farnell; ComponentLink13URL: http://datasheet.octopart.com/UWT1C221MCL1GS-Nichicon-datasheet-8720469.pdf?src-supplier=Element14; ComponentLink13Description: http://datasheet.octopart.com/UWT1C221MCL1GS-Nichicon-datasheet-8720469.pdf?src-supplier=Element14; ComponentLink14URL: http://datasheet.octopart.com/UWT1C221MCL1GS-Nichicon-datasheet-100454312.pdf?src-supplier=Megastar; ComponentLink14Description: http://datasheet.octopart.com/UWT1C221MCL1GS-Nichicon-datasheet-100454312.pdf?src-supplier=Megastar; ComponentLink15URL: http://datasheet.octopart.com/UWT1C221MCL1GS-Nichicon-datasheet-2867.pdf?src-supplier=Digi-Key; ComponentLink15Description: http://datasheet.octopart.com/UWT1C221MCL1GS-Nichicon-datasheet-2867.pdf?src-supplier=Digi-Key; ComponentLink16URL: http://datasheet.octopart.com/UWT1C221MCL1GS-Nichicon-datasheet-499218.pdf?src-supplier=Future+Electronics; ComponentLink16Description: http://datasheet.octopart.com/UWT1C221MCL1GS-Nichicon-datasheet-499218.pdf?src-supplier=Future+Electronics; ComponentLink17URL: http://datasheet.octopart.com/UWT1C221MCL1GS-Nichicon-datasheet-8836720.pdf?src-supplier=Element14; ComponentLink17Description: http://datasheet.octopart.com/UWT1C221MCL1GS-Nichicon-datasheet-8836720.pdf?src-supplier=Element14; ComponentLink18URL: http://datasheet.octopart.com/UWT1C221MCL1GS-Nichicon-datasheet-5313425.pdf?src-supplier=Element14; ComponentLink18Description: http://datasheet.octopart.com/UWT1C221MCL1GS-Nichicon-datasheet-5313425.pdf?src-supplier=Element14; ComponentLink19URL: http://datasheet.octopart.com/UWT1C221MCL1GS-Nichicon-datasheet-27713492.pdf?src-supplier=TME; ComponentLink19Description: http://datasheet.octopart.com/UWT1C221MCL1GS-Nichicon-datasheet-27713492.pdf?src-supplier=TME
footprint 220uF (Aluminum Electrolytic Capacitor, Body 6.60x6.60x6.90mm, IPC Low Density)
pins: 1 51, 2 52